# Altium integrated library Linear Technology Power Management LDO Linear Regulators.IntLib: 2339 symbols (part 93 of 131)
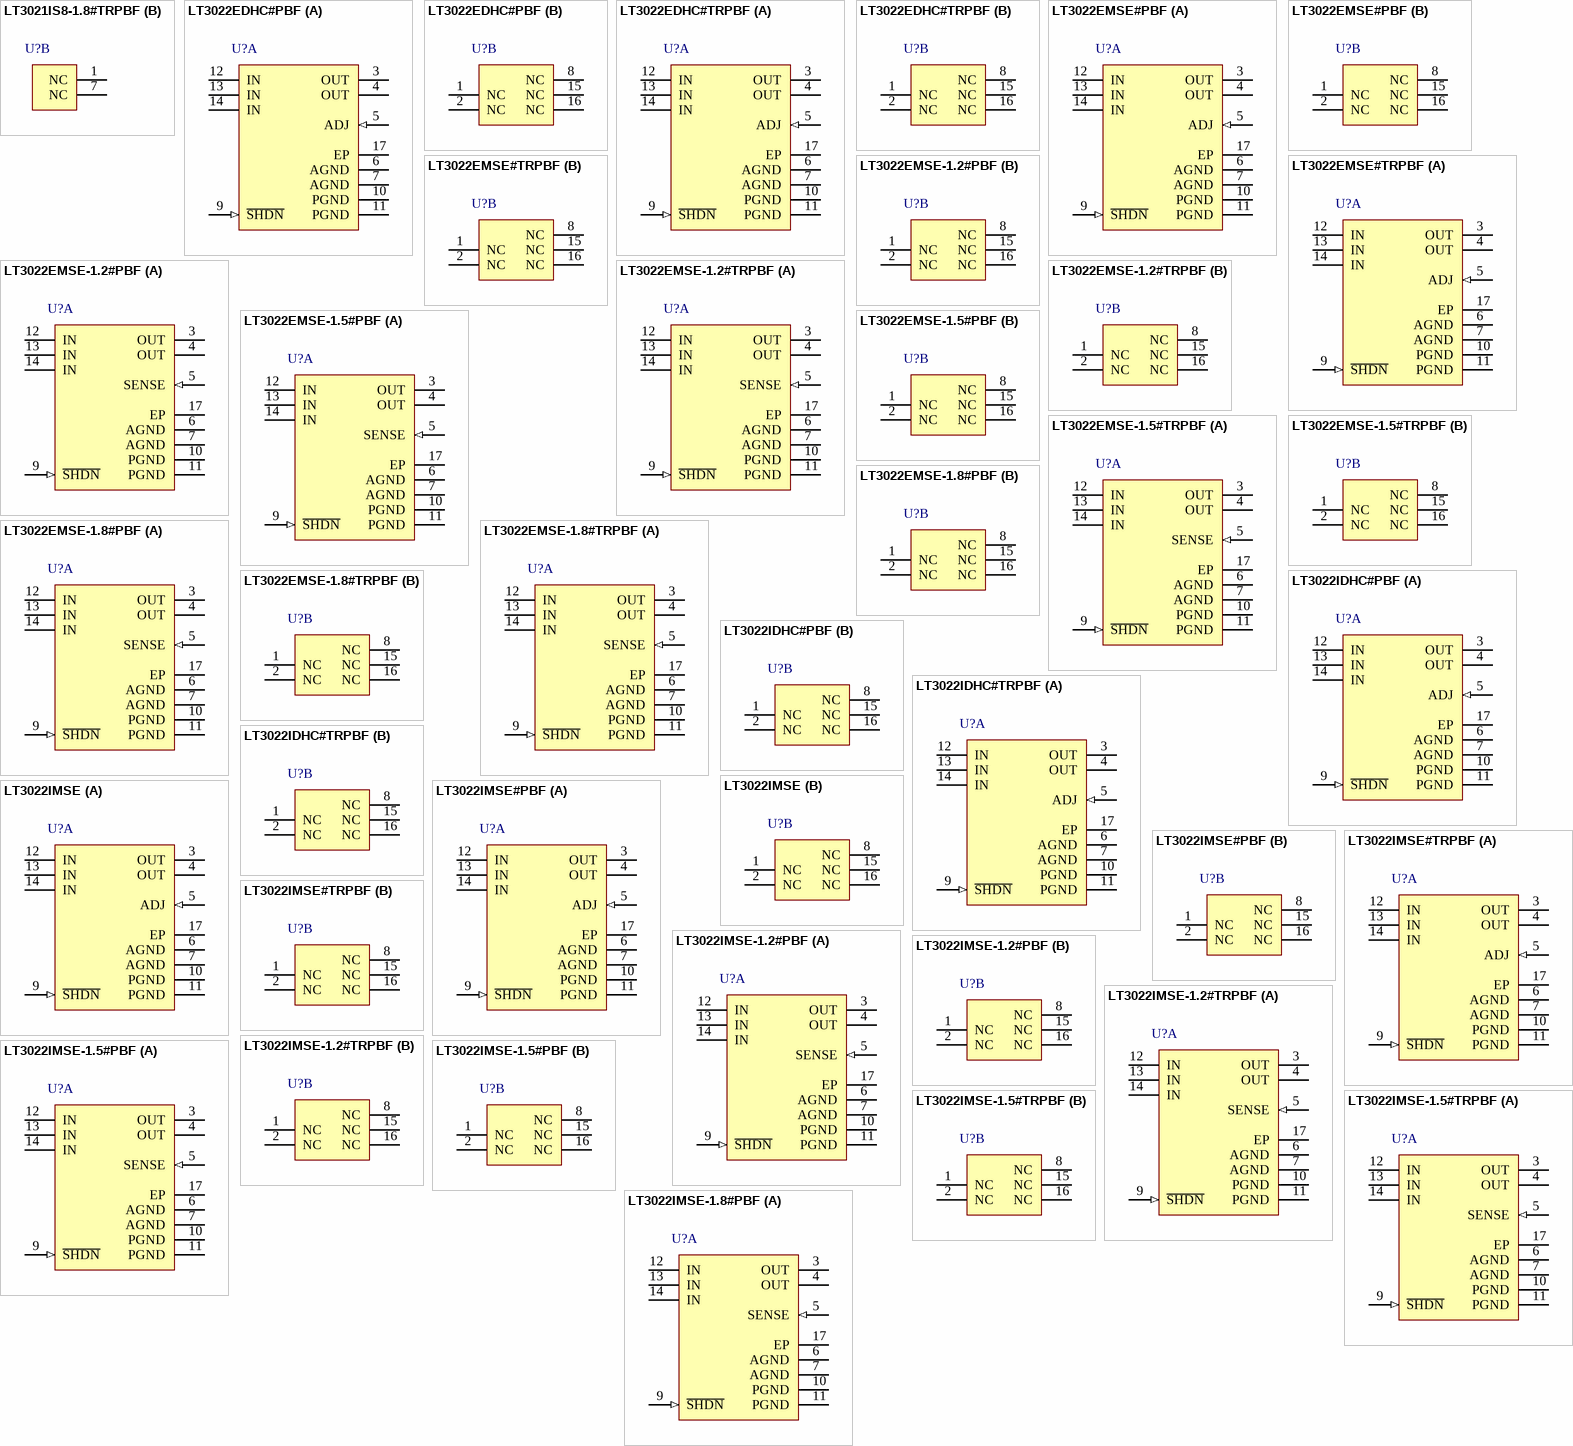
[diagram p161: symbols LT3021IS8-1.8#TRPBF to LT3022IMSE-1.8#PBF]

## LT3022EMSE#PBF
designator U?
1 A, Very Low Dropout Linear Regulator, 0.9 to 10 V Vin, Adjustable Vout, 16-pin SOP (MSE-16-EDP), -40 to 125 degC, Pb-Free; Manufacturer: Linear Technology; PartNumber: LT3022EMSE#PBF; Discrete Pass Element: no; Dropout Voltage(V): 0.145; Iout(mA): 1000; Isupply(mA): 0.4; Noise(uV): 165; Number of Outputs: 1; Output Voltage: Adj; PSRR(dB): 70; Shutdown Current(uA): 7.5; Vin Max(V): 10; Vin Min(V): 0.9; Vout Max(V): 9.5; Vout Min(V): 0.2; DatasheetVersion: Rev. B; PackageVersion: Rev. F, 05/2013; PackageReference: MSE-16; PackageDescription: 16-Pin Plastic MSOP, Exposed Die Pad, Body 4.039 x 3 mm, Pitch 0.5 mm; Supplier 1: Digi-Key; Supplier Part Number 1: LT3022EMSE#PBF-ND; Supplier 2: Farnell; Supplier Part Number 2: 1839069; Supplier 3: Newark; Supplier Part Number 3: 13T4226; RoHS: TRUE; Mounting Technology: Surface Mount; ComponentLink1Description: Manufacturer URL; ComponentLink1URL: http://www.linear.com/; ComponentLink2Description: Datasheet; ComponentLink2URL: http://cds.linear.com/docs/en/datasheet/3022fb.pdf; ComponentLink3Description: Package Specification; ComponentLink3URL: http://cds.linear.com/docs/en/packaging/05081667_F_MSE16.pdf
footprint LT-MSE-16-EDP_N (SOP, 16-Leads, Body 4.039x3mm, Pitch 0.5mm, Thermal Pad 2.95x1.76mm, IPC Medium Density)
footprint LT-MSE-16-EDP_L (SOP, 16-Leads, Body 4.039x3mm, Pitch 0.5mm, Thermal Pad 2.95x1.76mm, IPC High Density)
footprint LT-MSE-16-EDP_M (SOP, 16-Leads, Body 4.039x3mm, Pitch 0.5mm, Thermal Pad 2.95x1.76mm, IPC Low Density)
part A pins: 3 OUT (power) "These pins supply power to the load. Use a minimum output capacitor of 10uF to prevent oscillations. Large load transient applications require larger output capacitors to limit peak voltage transients. See the Applications (See Datasheet)", 4 OUT (power) "These pins supply power to the load. Use a minimum output capacitor of 10uF to prevent oscillations. Large load transient applications require larger output capacitors to limit peak voltage transients. See the Applications (See Datasheet)", 5 ADJ (in) "This pin is the error amplifier inverting terminal. Its 30nA typical input bias current flows out of the pin (see curve of ADJ Pin Bias Current vs Temperature in the Typical Performance Characteristics). The ADJ pin (See Datasheet)", 6 AGND (power) "Analog Ground. Tie these pins directly to PGND (Pins 10, 11) and the exposed backside GND (Pin 17). Connect the bottom of the external resistor divider, setting output voltage, directly to AGND for optimum regulation.", 7 AGND (power) "Analog Ground. Tie these pins directly to PGND (Pins 10, 11) and the exposed backside GND (Pin 17). Connect the bottom of the external resistor divider, setting output voltage, directly to AGND for optimum regulation.", 9 ~{SHDN} (in) "Pulling the S\H\D\N\ pin low puts the LT3022 into a low power state and turns the output off. Drive the S\H\D\N\ pin with either logic or an open-collector/drain device with a pull-up resistor. The resistor supplies the (See Datasheet)", 10 PGND (power) "Power Ground. The majority of ground pin current flows out of PGND. Tie these pins directly to AGND (Pins 6, 7) and the exposed backside GND (Pin 17).", 11 PGND (power) "Power Ground. The majority of ground pin current flows out of PGND. Tie these pins directly to AGND (Pins 6, 7) and the exposed backside GND (Pin 17).", 12 IN (power) "These pins supply power to the device. The LT3022 requires a bypass capacitor at IN if located more than six inches from the main input filter capacitor. Include a bypass capacitor in battery-powered circuits as a (See Datasheet)", 13 IN (power) "These pins supply power to the device. The LT3022 requires a bypass capacitor at IN if located more than six inches from the main input filter capacitor. Include a bypass capacitor in battery-powered circuits as a (See Datasheet)", 14 IN (power) "These pins supply power to the device. The LT3022 requires a bypass capacitor at IN if located more than six inches from the main input filter capacitor. Include a bypass capacitor in battery-powered circuits as a (See Datasheet)", 17 EP (power) "Exposed Pad. Tie this pin directly to AGND (Pins 6, 7), PGND (Pins 10, 11) and the PCB ground. This pin provides enhanced thermal performance with its connection to the PCB ground. See the Applications Information section (See Datasheet)"
part B pins: 1 NC "No Connect Pins. These pins have no connection to internal circuitry. These pins may be floated, tied to VIN or tied to GND for improved thermal performance.", 2 NC "No Connect Pins. These pins have no connection to internal circuitry. These pins may be floated, tied to VIN or tied to GND for improved thermal performance.", 8 NC "No Connect Pins. These pins have no connection to internal circuitry. These pins may be floated, tied to VIN or tied to GND for improved thermal performance.", 15 NC "No Connect Pins. These pins have no connection to internal circuitry. These pins may be floated, tied to VIN or tied to GND for improved thermal performance.", 16 NC "No Connect Pins. These pins have no connection to internal circuitry. These pins may be floated, tied to VIN or tied to GND for improved thermal performance."

## LT3022EMSE#TRPBF
designator U?
1 A, Very Low Dropout Linear Regulator, 0.9 to 10 V Vin, Adjustable Vout, 16-pin SOP (MSE-16-EDP), -40 to 125 degC, Pb-Free, Tape and Reel; Manufacturer: Linear Technology; PartNumber: LT3022EMSE#TRPBF; Discrete Pass Element: no; Dropout Voltage(V): 0.145; Iout(mA): 1000; Isupply(mA): 0.4; Noise(uV): 165; Number of Outputs: 1; Output Voltage: Adj; PSRR(dB): 70; Shutdown Current(uA): 7.5; Vin Max(V): 10; Vin Min(V): 0.9; Vout Max(V): 9.5; Vout Min(V): 0.2; DatasheetVersion: Rev. B; PackageVersion: Rev. F, 05/2013; PackageReference: MSE-16; PackageDescription: 16-Pin Plastic MSOP, Exposed Die Pad, Body 4.039 x 3 mm, Pitch 0.5 mm; Supplier 1: Digi-Key; Supplier Part Number 1: LT3022EMSE#TRPBF-ND; Supplier 2: Newark; Supplier Part Number 2: 13T4227; Packing: Tape and Reel; RoHS: TRUE; Mounting Technology: Surface Mount; ComponentLink1Description: Manufacturer URL; ComponentLink1URL: http://www.linear.com/; ComponentLink2Description: Datasheet; ComponentLink2URL: http://cds.linear.com/docs/en/datasheet/3022fb.pdf; ComponentLink3Description: Package Specification; ComponentLink3URL: http://cds.linear.com/docs/en/packaging/05081667_F_MSE16.pdf
footprint LT-MSE-16-EDP_N (SOP, 16-Leads, Body 4.039x3mm, Pitch 0.5mm, Thermal Pad 2.95x1.76mm, IPC Medium Density)
footprint LT-MSE-16-EDP_L (SOP, 16-Leads, Body 4.039x3mm, Pitch 0.5mm, Thermal Pad 2.95x1.76mm, IPC High Density)
footprint LT-MSE-16-EDP_M (SOP, 16-Leads, Body 4.039x3mm, Pitch 0.5mm, Thermal Pad 2.95x1.76mm, IPC Low Density)
part A pins: 3 OUT (power) "These pins supply power to the load. Use a minimum output capacitor of 10uF to prevent oscillations. Large load transient applications require larger output capacitors to limit peak voltage transients. See the Applications (See Datasheet)", 4 OUT (power) "These pins supply power to the load. Use a minimum output capacitor of 10uF to prevent oscillations. Large load transient applications require larger output capacitors to limit peak voltage transients. See the Applications (See Datasheet)", 5 ADJ (in) "This pin is the error amplifier inverting terminal. Its 30nA typical input bias current flows out of the pin (see curve of ADJ Pin Bias Current vs Temperature in the Typical Performance Characteristics). The ADJ pin (See Datasheet)", 6 AGND (power) "Analog Ground. Tie these pins directly to PGND (Pins 10, 11) and the exposed backside GND (Pin 17). Connect the bottom of the external resistor divider, setting output voltage, directly to AGND for optimum regulation.", 7 AGND (power) "Analog Ground. Tie these pins directly to PGND (Pins 10, 11) and the exposed backside GND (Pin 17). Connect the bottom of the external resistor divider, setting output voltage, directly to AGND for optimum regulation.", 9 ~{SHDN} (in) "Pulling the S\H\D\N\ pin low puts the LT3022 into a low power state and turns the output off. Drive the S\H\D\N\ pin with either logic or an open-collector/drain device with a pull-up resistor. The resistor supplies the (See Datasheet)", 10 PGND (power) "Power Ground. The majority of ground pin current flows out of PGND. Tie these pins directly to AGND (Pins 6, 7) and the exposed backside GND (Pin 17).", 11 PGND (power) "Power Ground. The majority of ground pin current flows out of PGND. Tie these pins directly to AGND (Pins 6, 7) and the exposed backside GND (Pin 17).", 12 IN (power) "These pins supply power to the device. The LT3022 requires a bypass capacitor at IN if located more than six inches from the main input filter capacitor. Include a bypass capacitor in battery-powered circuits as a (See Datasheet)", 13 IN (power) "These pins supply power to the device. The LT3022 requires a bypass capacitor at IN if located more than six inches from the main input filter capacitor. Include a bypass capacitor in battery-powered circuits as a (See Datasheet)", 14 IN (power) "These pins supply power to the device. The LT3022 requires a bypass capacitor at IN if located more than six inches from the main input filter capacitor. Include a bypass capacitor in battery-powered circuits as a (See Datasheet)", 17 EP (power) "Exposed Pad. Tie this pin directly to AGND (Pins 6, 7), PGND (Pins 10, 11) and the PCB ground. This pin provides enhanced thermal performance with its connection to the PCB ground. See the Applications Information section (See Datasheet)"
part B pins: 1 NC "No Connect Pins. These pins have no connection to internal circuitry. These pins may be floated, tied to VIN or tied to GND for improved thermal performance.", 2 NC "No Connect Pins. These pins have no connection to internal circuitry. These pins may be floated, tied to VIN or tied to GND for improved thermal performance.", 8 NC "No Connect Pins. These pins have no connection to internal circuitry. These pins may be floated, tied to VIN or tied to GND for improved thermal performance.", 15 NC "No Connect Pins. These pins have no connection to internal circuitry. These pins may be floated, tied to VIN or tied to GND for improved thermal performance.", 16 NC "No Connect Pins. These pins have no connection to internal circuitry. These pins may be floated, tied to VIN or tied to GND for improved thermal performance."

## LT3022EMSE-1.2#PBF
designator U?
1 A, Very Low Dropout Linear Regulator, 0.9 to 10 V Vin, 1.2 V Vout, 16-pin SOP (MSE-16-EDP), -40 to 125 degC, Pb-Free; Manufacturer: Linear Technology; PartNumber: LT3022EMSE-1.2#PBF; Discrete Pass Element: no; Dropout Voltage(V): 0.145; Iout(mA): 1000; Isupply(mA): 0.4; Noise(uV): 165; Number of Outputs: 1; Output Voltage: 1.2 V; PSRR(dB): 66; Shutdown Current(uA): 7.5; Vin Max(V): 10; Vin Min(V): 0.9; DatasheetVersion: Rev. B; PackageVersion: Rev. F, 05/2013; PackageReference: MSE-16; PackageDescription: 16-Pin Plastic MSOP, Exposed Die Pad, Body 4.039 x 3 mm, Pitch 0.5 mm; Supplier 1: Digi-Key; Supplier Part Number 1: LT3022EMSE-1.2#PBF-ND; Supplier 2: Farnell; Supplier Part Number 2: 1847505; Supplier 3: Newark; Supplier Part Number 3: 13T4220; RoHS: TRUE; Mounting Technology: Surface Mount; ComponentLink1Description: Manufacturer URL; ComponentLink1URL: http://www.linear.com/; ComponentLink2Description: Datasheet; ComponentLink2URL: http://cds.linear.com/docs/en/datasheet/3022fb.pdf; ComponentLink3Description: Package Specification; ComponentLink3URL: http://cds.linear.com/docs/en/packaging/05081667_F_MSE16.pdf
footprint LT-MSE-16-EDP_N (SOP, 16-Leads, Body 4.039x3mm, Pitch 0.5mm, Thermal Pad 2.95x1.76mm, IPC Medium Density)
footprint LT-MSE-16-EDP_L (SOP, 16-Leads, Body 4.039x3mm, Pitch 0.5mm, Thermal Pad 2.95x1.76mm, IPC High Density)
footprint LT-MSE-16-EDP_M (SOP, 16-Leads, Body 4.039x3mm, Pitch 0.5mm, Thermal Pad 2.95x1.76mm, IPC Low Density)
part A pins: 3 OUT (power) "These pins supply power to the load. Use a minimum output capacitor of 10uF to prevent oscillations. Large load transient applications require larger output capacitors to limit peak voltage transients. See the Applications (See Datasheet)", 4 OUT (power) "These pins supply power to the load. Use a minimum output capacitor of 10uF to prevent oscillations. Large load transient applications require larger output capacitors to limit peak voltage transients. See the Applications (See Datasheet)", 5 SENSE (in) "This pin is the sense point for the internal resistor divider. It should be tied directly to the OUT pins for best results.", 6 AGND (power) "Analog Ground. Tie these pins directly to PGND (Pins 10, 11) and the exposed backside GND (Pin 17). Connect the bottom of the external resistor divider, setting output voltage, directly to AGND for optimum regulation.", 7 AGND (power) "Analog Ground. Tie these pins directly to PGND (Pins 10, 11) and the exposed backside GND (Pin 17). Connect the bottom of the external resistor divider, setting output voltage, directly to AGND for optimum regulation.", 9 ~{SHDN} (in) "Pulling the S\H\D\N\ pin low puts the LT3022 into a low power state and turns the output off. Drive the S\H\D\N\ pin with either logic or an open-collector/drain device with a pull-up resistor. The resistor supplies the (See Datasheet)", 10 PGND (power) "Power Ground. The majority of ground pin current flows out of PGND. Tie these pins directly to AGND (Pins 6, 7) and the exposed backside GND (Pin 17).", 11 PGND (power) "Power Ground. The majority of ground pin current flows out of PGND. Tie these pins directly to AGND (Pins 6, 7) and the exposed backside GND (Pin 17).", 12 IN (power) "These pins supply power to the device. The LT3022 requires a bypass capacitor at IN if located more than six inches from the main input filter capacitor. Include a bypass capacitor in battery-powered circuits as a (See Datasheet)", 13 IN (power) "These pins supply power to the device. The LT3022 requires a bypass capacitor at IN if located more than six inches from the main input filter capacitor. Include a bypass capacitor in battery-powered circuits as a (See Datasheet)", 14 IN (power) "These pins supply power to the device. The LT3022 requires a bypass capacitor at IN if located more than six inches from the main input filter capacitor. Include a bypass capacitor in battery-powered circuits as a (See Datasheet)", 17 EP (power) "Exposed Pad. Tie this pin directly to AGND (Pins 6, 7), PGND (Pins 10, 11) and the PCB ground. This pin provides enhanced thermal performance with its connection to the PCB ground. See the Applications Information section (See Datasheet)"
part B pins: 1 NC "No Connect Pins. These pins have no connection to internal circuitry. These pins may be floated, tied to VIN or tied to GND for improved thermal performance.", 2 NC "No Connect Pins. These pins have no connection to internal circuitry. These pins may be floated, tied to VIN or tied to GND for improved thermal performance.", 8 NC "No Connect Pins. These pins have no connection to internal circuitry. These pins may be floated, tied to VIN or tied to GND for improved thermal performance.", 15 NC "No Connect Pins. These pins have no connection to internal circuitry. These pins may be floated, tied to VIN or tied to GND for improved thermal performance.", 16 NC "No Connect Pins. These pins have no connection to internal circuitry. These pins may be floated, tied to VIN or tied to GND for improved thermal performance."

## LT3022EMSE-1.2#TRPBF
designator U?
1 A, Very Low Dropout Linear Regulator, 0.9 to 10 V Vin, 1.2 V Vout, 16-pin SOP (MSE-16-EDP), -40 to 125 degC, Pb-Free, Tape and Reel; Manufacturer: Linear Technology; PartNumber: LT3022EMSE-1.2#TRPBF; Discrete Pass Element: no; Dropout Voltage(V): 0.145; Iout(mA): 1000; Isupply(mA): 0.4; Noise(uV): 165; Number of Outputs: 1; Output Voltage: 1.2 V; PSRR(dB): 66; Shutdown Current(uA): 7.5; Vin Max(V): 10; Vin Min(V): 0.9; DatasheetVersion: Rev. B; PackageVersion: Rev. F, 05/2013; PackageReference: MSE-16; PackageDescription: 16-Pin Plastic MSOP, Exposed Die Pad, Body 4.039 x 3 mm, Pitch 0.5 mm; Supplier 1: Digi-Key; Supplier Part Number 1: LT3022EMSE-1.2#TRPBF-ND; Supplier 2: Newark; Supplier Part Number 2: 13T4221; Packing: Tape and Reel; RoHS: TRUE; Mounting Technology: Surface Mount; ComponentLink1Description: Manufacturer URL; ComponentLink1URL: http://www.linear.com/; ComponentLink2Description: Datasheet; ComponentLink2URL: http://cds.linear.com/docs/en/datasheet/3022fb.pdf; ComponentLink3Description: Package Specification; ComponentLink3URL: http://cds.linear.com/docs/en/packaging/05081667_F_MSE16.pdf
footprint LT-MSE-16-EDP_N (SOP, 16-Leads, Body 4.039x3mm, Pitch 0.5mm, Thermal Pad 2.95x1.76mm, IPC Medium Density)
footprint LT-MSE-16-EDP_L (SOP, 16-Leads, Body 4.039x3mm, Pitch 0.5mm, Thermal Pad 2.95x1.76mm, IPC High Density)
footprint LT-MSE-16-EDP_M (SOP, 16-Leads, Body 4.039x3mm, Pitch 0.5mm, Thermal Pad 2.95x1.76mm, IPC Low Density)
part A pins: 3 OUT (power) "These pins supply power to the load. Use a minimum output capacitor of 10uF to prevent oscillations. Large load transient applications require larger output capacitors to limit peak voltage transients. See the Applications (See Datasheet)", 4 OUT (power) "These pins supply power to the load. Use a minimum output capacitor of 10uF to prevent oscillations. Large load transient applications require larger output capacitors to limit peak voltage transients. See the Applications (See Datasheet)", 5 SENSE (in) "This pin is the sense point for the internal resistor divider. It should be tied directly to the OUT pins for best results.", 6 AGND (power) "Analog Ground. Tie these pins directly to PGND (Pins 10, 11) and the exposed backside GND (Pin 17). Connect the bottom of the external resistor divider, setting output voltage, directly to AGND for optimum regulation.", 7 AGND (power) "Analog Ground. Tie these pins directly to PGND (Pins 10, 11) and the exposed backside GND (Pin 17). Connect the bottom of the external resistor divider, setting output voltage, directly to AGND for optimum regulation.", 9 ~{SHDN} (in) "Pulling the S\H\D\N\ pin low puts the LT3022 into a low power state and turns the output off. Drive the S\H\D\N\ pin with either logic or an open-collector/drain device with a pull-up resistor. The resistor supplies the (See Datasheet)", 10 PGND (power) "Power Ground. The majority of ground pin current flows out of PGND. Tie these pins directly to AGND (Pins 6, 7) and the exposed backside GND (Pin 17).", 11 PGND (power) "Power Ground. The majority of ground pin current flows out of PGND. Tie these pins directly to AGND (Pins 6, 7) and the exposed backside GND (Pin 17).", 12 IN (power) "These pins supply power to the device. The LT3022 requires a bypass capacitor at IN if located more than six inches from the main input filter capacitor. Include a bypass capacitor in battery-powered circuits as a (See Datasheet)", 13 IN (power) "These pins supply power to the device. The LT3022 requires a bypass capacitor at IN if located more than six inches from the main input filter capacitor. Include a bypass capacitor in battery-powered circuits as a (See Datasheet)", 14 IN (power) "These pins supply power to the device. The LT3022 requires a bypass capacitor at IN if located more than six inches from the main input filter capacitor. Include a bypass capacitor in battery-powered circuits as a (See Datasheet)", 17 EP (power) "Exposed Pad. Tie this pin directly to AGND (Pins 6, 7), PGND (Pins 10, 11) and the PCB ground. This pin provides enhanced thermal performance with its connection to the PCB ground. See the Applications Information section (See Datasheet)"
part B pins: 1 NC "No Connect Pins. These pins have no connection to internal circuitry. These pins may be floated, tied to VIN or tied to GND for improved thermal performance.", 2 NC "No Connect Pins. These pins have no connection to internal circuitry. These pins may be floated, tied to VIN or tied to GND for improved thermal performance.", 8 NC "No Connect Pins. These pins have no connection to internal circuitry. These pins may be floated, tied to VIN or tied to GND for improved thermal performance.", 15 NC "No Connect Pins. These pins have no connection to internal circuitry. These pins may be floated, tied to VIN or tied to GND for improved thermal performance.", 16 NC "No Connect Pins. These pins have no connection to internal circuitry. These pins may be floated, tied to VIN or tied to GND for improved thermal performance."

## LT3022EMSE-1.5#PBF
designator U?
1 A, Very Low Dropout Linear Regulator, 0.9 to 10 V Vin, 1.5 V Vout, 16-pin SOP (MSE-16-EDP), -40 to 125 degC, Pb-Free; Manufacturer: Linear Technology; PartNumber: LT3022EMSE-1.5#PBF; Discrete Pass Element: no; Dropout Voltage(V): 0.145; Iout(mA): 1000; Isupply(mA): 0.4; Noise(uV): 165; Number of Outputs: 1; Output Voltage: 1.5 V; PSRR(dB): 66; Shutdown Current(uA): 7.5; Vin Max(V): 10; Vin Min(V): 0.9; DatasheetVersion: Rev. B; PackageVersion: Rev. F, 05/2013; PackageReference: MSE-16; PackageDescription: 16-Pin Plastic MSOP, Exposed Die Pad, Body 4.039 x 3 mm, Pitch 0.5 mm; Supplier 1: Digi-Key; Supplier Part Number 1: LT3022EMSE-1.5#PBF-ND; Supplier 2: Farnell; Supplier Part Number 2: 1847512; Supplier 3: Newark; Supplier Part Number 3: 13T4222; RoHS: TRUE; Mounting Technology: Surface Mount; ComponentLink1Description: Manufacturer URL; ComponentLink1URL: http://www.linear.com/; ComponentLink2Description: Datasheet; ComponentLink2URL: http://cds.linear.com/docs/en/datasheet/3022fb.pdf; ComponentLink3Description: Package Specification; ComponentLink3URL: http://cds.linear.com/docs/en/packaging/05081667_F_MSE16.pdf
footprint LT-MSE-16-EDP_N (SOP, 16-Leads, Body 4.039x3mm, Pitch 0.5mm, Thermal Pad 2.95x1.76mm, IPC Medium Density)
footprint LT-MSE-16-EDP_L (SOP, 16-Leads, Body 4.039x3mm, Pitch 0.5mm, Thermal Pad 2.95x1.76mm, IPC High Density)
footprint LT-MSE-16-EDP_M (SOP, 16-Leads, Body 4.039x3mm, Pitch 0.5mm, Thermal Pad 2.95x1.76mm, IPC Low Density)
part A pins: 3 OUT (power) "These pins supply power to the load. Use a minimum output capacitor of 10uF to prevent oscillations. Large load transient applications require larger output capacitors to limit peak voltage transients. See the Applications (See Datasheet)", 4 OUT (power) "These pins supply power to the load. Use a minimum output capacitor of 10uF to prevent oscillations. Large load transient applications require larger output capacitors to limit peak voltage transients. See the Applications (See Datasheet)", 5 SENSE (in) "This pin is the sense point for the internal resistor divider. It should be tied directly to the OUT pins for best results.", 6 AGND (power) "Analog Ground. Tie these pins directly to PGND (Pins 10, 11) and the exposed backside GND (Pin 17). Connect the bottom of the external resistor divider, setting output voltage, directly to AGND for optimum regulation.", 7 AGND (power) "Analog Ground. Tie these pins directly to PGND (Pins 10, 11) and the exposed backside GND (Pin 17). Connect the bottom of the external resistor divider, setting output voltage, directly to AGND for optimum regulation.", 9 ~{SHDN} (in) "Pulling the S\H\D\N\ pin low puts the LT3022 into a low power state and turns the output off. Drive the S\H\D\N\ pin with either logic or an open-collector/drain device with a pull-up resistor. The resistor supplies the (See Datasheet)", 10 PGND (power) "Power Ground. The majority of ground pin current flows out of PGND. Tie these pins directly to AGND (Pins 6, 7) and the exposed backside GND (Pin 17).", 11 PGND (power) "Power Ground. The majority of ground pin current flows out of PGND. Tie these pins directly to AGND (Pins 6, 7) and the exposed backside GND (Pin 17).", 12 IN (power) "These pins supply power to the device. The LT3022 requires a bypass capacitor at IN if located more than six inches from the main input filter capacitor. Include a bypass capacitor in battery-powered circuits as a (See Datasheet)", 13 IN (power) "These pins supply power to the device. The LT3022 requires a bypass capacitor at IN if located more than six inches from the main input filter capacitor. Include a bypass capacitor in battery-powered circuits as a (See Datasheet)", 14 IN (power) "These pins supply power to the device. The LT3022 requires a bypass capacitor at IN if located more than six inches from the main input filter capacitor. Include a bypass capacitor in battery-powered circuits as a (See Datasheet)", 17 EP (power) "Exposed Pad. Tie this pin directly to AGND (Pins 6, 7), PGND (Pins 10, 11) and the PCB ground. This pin provides enhanced thermal performance with its connection to the PCB ground. See the Applications Information section (See Datasheet)"
part B pins: 1 NC "No Connect Pins. These pins have no connection to internal circuitry. These pins may be floated, tied to VIN or tied to GND for improved thermal performance.", 2 NC "No Connect Pins. These pins have no connection to internal circuitry. These pins may be floated, tied to VIN or tied to GND for improved thermal performance.", 8 NC "No Connect Pins. These pins have no connection to internal circuitry. These pins may be floated, tied to VIN or tied to GND for improved thermal performance.", 15 NC "No Connect Pins. These pins have no connection to internal circuitry. These pins may be floated, tied to VIN or tied to GND for improved thermal performance.", 16 NC "No Connect Pins. These pins have no connection to internal circuitry. These pins may be floated, tied to VIN or tied to GND for improved thermal performance."

## LT3022EMSE-1.5#TRPBF
designator U?
1 A, Very Low Dropout Linear Regulator, 0.9 to 10 V Vin, 1.5 V Vout, 16-pin SOP (MSE-16-EDP), -40 to 125 degC, Pb-Free, Tape and Reel; Manufacturer: Linear Technology; PartNumber: LT3022EMSE-1.5#TRPBF; Discrete Pass Element: no; Dropout Voltage(V): 0.145; Iout(mA): 1000; Isupply(mA): 0.4; Noise(uV): 165; Number of Outputs: 1; Output Voltage: 1.5 V; PSRR(dB): 66; Shutdown Current(uA): 7.5; Vin Max(V): 10; Vin Min(V): 0.9; DatasheetVersion: Rev. B; PackageVersion: Rev. F, 05/2013; PackageReference: MSE-16; PackageDescription: 16-Pin Plastic MSOP, Exposed Die Pad, Body 4.039 x 3 mm, Pitch 0.5 mm; Supplier 1: Digi-Key; Supplier Part Number 1: LT3022EMSE-1.5#TRPBF-ND; Packing: Tape and Reel; RoHS: TRUE; Mounting Technology: Surface Mount; ComponentLink1Description: Manufacturer URL; ComponentLink1URL: http://www.linear.com/; ComponentLink2Description: Datasheet; ComponentLink2URL: http://cds.linear.com/docs/en/datasheet/3022fb.pdf; ComponentLink3Description: Package Specification; ComponentLink3URL: http://cds.linear.com/docs/en/packaging/05081667_F_MSE16.pdf
footprint LT-MSE-16-EDP_N (SOP, 16-Leads, Body 4.039x3mm, Pitch 0.5mm, Thermal Pad 2.95x1.76mm, IPC Medium Density)
footprint LT-MSE-16-EDP_L (SOP, 16-Leads, Body 4.039x3mm, Pitch 0.5mm, Thermal Pad 2.95x1.76mm, IPC High Density)
footprint LT-MSE-16-EDP_M (SOP, 16-Leads, Body 4.039x3mm, Pitch 0.5mm, Thermal Pad 2.95x1.76mm, IPC Low Density)
part A pins: 3 OUT (power) "These pins supply power to the load. Use a minimum output capacitor of 10uF to prevent oscillations. Large load transient applications require larger output capacitors to limit peak voltage transients. See the Applications (See Datasheet)", 4 OUT (power) "These pins supply power to the load. Use a minimum output capacitor of 10uF to prevent oscillations. Large load transient applications require larger output capacitors to limit peak voltage transients. See the Applications (See Datasheet)", 5 SENSE (in) "This pin is the sense point for the internal resistor divider. It should be tied directly to the OUT pins for best results.", 6 AGND (power) "Analog Ground. Tie these pins directly to PGND (Pins 10, 11) and the exposed backside GND (Pin 17). Connect the bottom of the external resistor divider, setting output voltage, directly to AGND for optimum regulation.", 7 AGND (power) "Analog Ground. Tie these pins directly to PGND (Pins 10, 11) and the exposed backside GND (Pin 17). Connect the bottom of the external resistor divider, setting output voltage, directly to AGND for optimum regulation.", 9 ~{SHDN} (in) "Pulling the S\H\D\N\ pin low puts the LT3022 into a low power state and turns the output off. Drive the S\H\D\N\ pin with either logic or an open-collector/drain device with a pull-up resistor. The resistor supplies the (See Datasheet)", 10 PGND (power) "Power Ground. The majority of ground pin current flows out of PGND. Tie these pins directly to AGND (Pins 6, 7) and the exposed backside GND (Pin 17).", 11 PGND (power) "Power Ground. The majority of ground pin current flows out of PGND. Tie these pins directly to AGND (Pins 6, 7) and the exposed backside GND (Pin 17).", 12 IN (power) "These pins supply power to the device. The LT3022 requires a bypass capacitor at IN if located more than six inches from the main input filter capacitor. Include a bypass capacitor in battery-powered circuits as a (See Datasheet)", 13 IN (power) "These pins supply power to the device. The LT3022 requires a bypass capacitor at IN if located more than six inches from the main input filter capacitor. Include a bypass capacitor in battery-powered circuits as a (See Datasheet)", 14 IN (power) "These pins supply power to the device. The LT3022 requires a bypass capacitor at IN if located more than six inches from the main input filter capacitor. Include a bypass capacitor in battery-powered circuits as a (See Datasheet)", 17 EP (power) "Exposed Pad. Tie this pin directly to AGND (Pins 6, 7), PGND (Pins 10, 11) and the PCB ground. This pin provides enhanced thermal performance with its connection to the PCB ground. See the Applications Information section (See Datasheet)"
part B pins: 1 NC "No Connect Pins. These pins have no connection to internal circuitry. These pins may be floated, tied to VIN or tied to GND for improved thermal performance.", 2 NC "No Connect Pins. These pins have no connection to internal circuitry. These pins may be floated, tied to VIN or tied to GND for improved thermal performance.", 8 NC "No Connect Pins. These pins have no connection to internal circuitry. These pins may be floated, tied to VIN or tied to GND for improved thermal performance.", 15 NC "No Connect Pins. These pins have no connection to internal circuitry. These pins may be floated, tied to VIN or tied to GND for improved thermal performance.", 16 NC "No Connect Pins. These pins have no connection to internal circuitry. These pins may be floated, tied to VIN or tied to GND for improved thermal performance."

## LT3022EMSE-1.8#PBF
designator U?
1 A, Very Low Dropout Linear Regulator, 0.9 to 10 V Vin, 1.8 V Vout, 16-pin SOP (MSE-16-EDP), -40 to 125 degC, Pb-Free; Manufacturer: Linear Technology; PartNumber: LT3022EMSE-1.8#PBF; Discrete Pass Element: no; Dropout Voltage(V): 0.145; Iout(mA): 1000; Isupply(mA): 0.4; Noise(uV): 165; Number of Outputs: 1; Output Voltage: 1.8 V; PSRR(dB): 66; Shutdown Current(uA): 7.5; Vin Max(V): 10; Vin Min(V): 0.9; DatasheetVersion: Rev. B; PackageVersion: Rev. F, 05/2013; PackageReference: MSE-16; PackageDescription: 16-Pin Plastic MSOP, Exposed Die Pad, Body 4.039 x 3 mm, Pitch 0.5 mm; Supplier 1: Digi-Key; Supplier Part Number 1: LT3022EMSE-1.8#PBF-ND; Supplier 2: Farnell; Supplier Part Number 2: 1847520; Supplier 3: Newark; Supplier Part Number 3: 13T4224; RoHS: TRUE; Mounting Technology: Surface Mount; ComponentLink1Description: Manufacturer URL; ComponentLink1URL: http://www.linear.com/; ComponentLink2Description: Datasheet; ComponentLink2URL: http://cds.linear.com/docs/en/datasheet/3022fb.pdf; ComponentLink3Description: Package Specification; ComponentLink3URL: http://cds.linear.com/docs/en/packaging/05081667_F_MSE16.pdf
footprint LT-MSE-16-EDP_N (SOP, 16-Leads, Body 4.039x3mm, Pitch 0.5mm, Thermal Pad 2.95x1.76mm, IPC Medium Density)
footprint LT-MSE-16-EDP_L (SOP, 16-Leads, Body 4.039x3mm, Pitch 0.5mm, Thermal Pad 2.95x1.76mm, IPC High Density)
footprint LT-MSE-16-EDP_M (SOP, 16-Leads, Body 4.039x3mm, Pitch 0.5mm, Thermal Pad 2.95x1.76mm, IPC Low Density)
part A pins: 3 OUT (power) "These pins supply power to the load. Use a minimum output capacitor of 10uF to prevent oscillations. Large load transient applications require larger output capacitors to limit peak voltage transients. See the Applications (See Datasheet)", 4 OUT (power) "These pins supply power to the load. Use a minimum output capacitor of 10uF to prevent oscillations. Large load transient applications require larger output capacitors to limit peak voltage transients. See the Applications (See Datasheet)", 5 SENSE (in) "This pin is the sense point for the internal resistor divider. It should be tied directly to the OUT pins for best results.", 6 AGND (power) "Analog Ground. Tie these pins directly to PGND (Pins 10, 11) and the exposed backside GND (Pin 17). Connect the bottom of the external resistor divider, setting output voltage, directly to AGND for optimum regulation.", 7 AGND (power) "Analog Ground. Tie these pins directly to PGND (Pins 10, 11) and the exposed backside GND (Pin 17). Connect the bottom of the external resistor divider, setting output voltage, directly to AGND for optimum regulation.", 9 ~{SHDN} (in) "Pulling the S\H\D\N\ pin low puts the LT3022 into a low power state and turns the output off. Drive the S\H\D\N\ pin with either logic or an open-collector/drain device with a pull-up resistor. The resistor supplies the (See Datasheet)", 10 PGND (power) "Power Ground. The majority of ground pin current flows out of PGND. Tie these pins directly to AGND (Pins 6, 7) and the exposed backside GND (Pin 17).", 11 PGND (power) "Power Ground. The majority of ground pin current flows out of PGND. Tie these pins directly to AGND (Pins 6, 7) and the exposed backside GND (Pin 17).", 12 IN (power) "These pins supply power to the device. The LT3022 requires a bypass capacitor at IN if located more than six inches from the main input filter capacitor. Include a bypass capacitor in battery-powered circuits as a (See Datasheet)", 13 IN (power) "These pins supply power to the device. The LT3022 requires a bypass capacitor at IN if located more than six inches from the main input filter capacitor. Include a bypass capacitor in battery-powered circuits as a (See Datasheet)", 14 IN (power) "These pins supply power to the device. The LT3022 requires a bypass capacitor at IN if located more than six inches from the main input filter capacitor. Include a bypass capacitor in battery-powered circuits as a (See Datasheet)", 17 EP (power) "Exposed Pad. Tie this pin directly to AGND (Pins 6, 7), PGND (Pins 10, 11) and the PCB ground. This pin provides enhanced thermal performance with its connection to the PCB ground. See the Applications Information section (See Datasheet)"
part B pins: 1 NC "No Connect Pins. These pins have no connection to internal circuitry. These pins may be floated, tied to VIN or tied to GND for improved thermal performance.", 2 NC "No Connect Pins. These pins have no connection to internal circuitry. These pins may be floated, tied to VIN or tied to GND for improved thermal performance.", 8 NC "No Connect Pins. These pins have no connection to internal circuitry. These pins may be floated, tied to VIN or tied to GND for improved thermal performance.", 15 NC "No Connect Pins. These pins have no connection to internal circuitry. These pins may be floated, tied to VIN or tied to GND for improved thermal performance.", 16 NC "No Connect Pins. These pins have no connection to internal circuitry. These pins may be floated, tied to VIN or tied to GND for improved thermal performance."

## LT3022EMSE-1.8#TRPBF
designator U?
1 A, Very Low Dropout Linear Regulator, 0.9 to 10 V Vin, 1.8 V Vout, 16-pin SOP (MSE-16-EDP), -40 to 125 degC, Pb-Free, Tape and Reel; Manufacturer: Linear Technology; PartNumber: LT3022EMSE-1.8#TRPBF; Discrete Pass Element: no; Dropout Voltage(V): 0.145; Iout(mA): 1000; Isupply(mA): 0.4; Noise(uV): 165; Number of Outputs: 1; Output Voltage: 1.8 V; PSRR(dB): 66; Shutdown Current(uA): 7.5; Vin Max(V): 10; Vin Min(V): 0.9; DatasheetVersion: Rev. B; PackageVersion: Rev. F, 05/2013; PackageReference: MSE-16; PackageDescription: 16-Pin Plastic MSOP, Exposed Die Pad, Body 4.039 x 3 mm, Pitch 0.5 mm; Supplier 1: Digi-Key; Supplier Part Number 1: LT3022EMSE-1.8#TRPBF-ND; Packing: Tape and Reel; RoHS: TRUE; Mounting Technology: Surface Mount; ComponentLink1Description: Manufacturer URL; ComponentLink1URL: http://www.linear.com/; ComponentLink2Description: Datasheet; ComponentLink2URL: http://cds.linear.com/docs/en/datasheet/3022fb.pdf; ComponentLink3Description: Package Specification; ComponentLink3URL: http://cds.linear.com/docs/en/packaging/05081667_F_MSE16.pdf
footprint LT-MSE-16-EDP_N (SOP, 16-Leads, Body 4.039x3mm, Pitch 0.5mm, Thermal Pad 2.95x1.76mm, IPC Medium Density)
footprint LT-MSE-16-EDP_L (SOP, 16-Leads, Body 4.039x3mm, Pitch 0.5mm, Thermal Pad 2.95x1.76mm, IPC High Density)
footprint LT-MSE-16-EDP_M (SOP, 16-Leads, Body 4.039x3mm, Pitch 0.5mm, Thermal Pad 2.95x1.76mm, IPC Low Density)
part A pins: 3 OUT (power) "These pins supply power to the load. Use a minimum output capacitor of 10uF to prevent oscillations. Large load transient applications require larger output capacitors to limit peak voltage transients. See the Applications (See Datasheet)", 4 OUT (power) "These pins supply power to the load. Use a minimum output capacitor of 10uF to prevent oscillations. Large load transient applications require larger output capacitors to limit peak voltage transients. See the Applications (See Datasheet)", 5 SENSE (in) "This pin is the sense point for the internal resistor divider. It should be tied directly to the OUT pins for best results.", 6 AGND (power) "Analog Ground. Tie these pins directly to PGND (Pins 10, 11) and the exposed backside GND (Pin 17). Connect the bottom of the external resistor divider, setting output voltage, directly to AGND for optimum regulation.", 7 AGND (power) "Analog Ground. Tie these pins directly to PGND (Pins 10, 11) and the exposed backside GND (Pin 17). Connect the bottom of the external resistor divider, setting output voltage, directly to AGND for optimum regulation.", 9 ~{SHDN} (in) "Pulling the S\H\D\N\ pin low puts the LT3022 into a low power state and turns the output off. Drive the S\H\D\N\ pin with either logic or an open-collector/drain device with a pull-up resistor. The resistor supplies the (See Datasheet)", 10 PGND (power) "Power Ground. The majority of ground pin current flows out of PGND. Tie these pins directly to AGND (Pins 6, 7) and the exposed backside GND (Pin 17).", 11 PGND (power) "Power Ground. The majority of ground pin current flows out of PGND. Tie these pins directly to AGND (Pins 6, 7) and the exposed backside GND (Pin 17).", 12 IN (power) "These pins supply power to the device. The LT3022 requires a bypass capacitor at IN if located more than six inches from the main input filter capacitor. Include a bypass capacitor in battery-powered circuits as a (See Datasheet)", 13 IN (power) "These pins supply power to the device. The LT3022 requires a bypass capacitor at IN if located more than six inches from the main input filter capacitor. Include a bypass capacitor in battery-powered circuits as a (See Datasheet)", 14 IN (power) "These pins supply power to the device. The LT3022 requires a bypass capacitor at IN if located more than six inches from the main input filter capacitor. Include a bypass capacitor in battery-powered circuits as a (See Datasheet)", 17 EP (power) "Exposed Pad. Tie this pin directly to AGND (Pins 6, 7), PGND (Pins 10, 11) and the PCB ground. This pin provides enhanced thermal performance with its connection to the PCB ground. See the Applications Information section (See Datasheet)"
part B pins: 1 NC "No Connect Pins. These pins have no connection to internal circuitry. These pins may be floated, tied to VIN or tied to GND for improved thermal performance.", 2 NC "No Connect Pins. These pins have no connection to internal circuitry. These pins may be floated, tied to VIN or tied to GND for improved thermal performance.", 8 NC "No Connect Pins. These pins have no connection to internal circuitry. These pins may be floated, tied to VIN or tied to GND for improved thermal performance.", 15 NC "No Connect Pins. These pins have no connection to internal circuitry. These pins may be floated, tied to VIN or tied to GND for improved thermal performance.", 16 NC "No Connect Pins. These pins have no connection to internal circuitry. These pins may be floated, tied to VIN or tied to GND for improved thermal performance."

## LT3022IDHC#PBF
designator U?
1 A, Very Low Dropout Linear Regulator, 0.9 to 10 V Vin, Adjustable Vout, 16-pin SON (DHC-16), -40 to 125 degC, Pb-Free; Manufacturer: Linear Technology; PartNumber: LT3022IDHC#PBF; Discrete Pass Element: no; Dropout Voltage(V): 0.145; Iout(mA): 1000; Isupply(mA): 0.4; Noise(uV): 165; Number of Outputs: 1; Output Voltage: Adj; PSRR(dB): 70; Shutdown Current(uA): 7.5; Vin Max(V): 10; Vin Min(V): 0.9; Vout Max(V): 9.5; Vout Min(V): 0.2; DatasheetVersion: Rev. B; PackageVersion: Jun-10; PackageReference: DHC-16; PackageDescription: 16-Pin Plastic DFN, Body 5 x 3 mm, Pitch 0.5 mm; Supplier 1: Digi-Key; Supplier Part Number 1: LT3022IDHC#PBF-ND; Supplier 2: Farnell; Supplier Part Number 2: 2295252; Supplier 3: Newark; Supplier Part Number 3: 13T4228; RoHS: TRUE; Mounting Technology: Surface Mount; Code_JEDEC: MO-229; ComponentLink1Description: Manufacturer URL; ComponentLink1URL: http://www.linear.com/; ComponentLink2Description: Datasheet; ComponentLink2URL: http://cds.linear.com/docs/en/datasheet/3022fb.pdf; ComponentLink3Description: Package Specification; ComponentLink3URL: http://cds.linear.com/docs/en/packaging/DFN_16_05-08-1706.pdf
footprint LT-DHC-16_V (SON, 16-Leads, Body 5x3mm, Pitch 0.5mm, Thermal Pad 4.4X1.65mm)
part A pins: 3 OUT (power) "These pins supply power to the load. Use a minimum output capacitor of 10uF to prevent oscillations. Large load transient applications require larger output capacitors to limit peak voltage transients. See the Applications (See Datasheet)", 4 OUT (power) "These pins supply power to the load. Use a minimum output capacitor of 10uF to prevent oscillations. Large load transient applications require larger output capacitors to limit peak voltage transients. See the Applications (See Datasheet)", 5 ADJ (in) "This pin is the error amplifier inverting terminal. Its 30nA typical input bias current flows out of the pin (see curve of ADJ Pin Bias Current vs Temperature in the Typical Performance Characteristics). The ADJ pin (See Datasheet)", 6 AGND (power) "Analog Ground. Tie these pins directly to PGND (Pins 10, 11) and the exposed backside GND (Pin 17). Connect the bottom of the external resistor divider, setting output voltage, directly to AGND for optimum regulation.", 7 AGND (power) "Analog Ground. Tie these pins directly to PGND (Pins 10, 11) and the exposed backside GND (Pin 17). Connect the bottom of the external resistor divider, setting output voltage, directly to AGND for optimum regulation.", 9 ~{SHDN} (in) "Pulling the S\H\D\N\ pin low puts the LT3022 into a low power state and turns the output off. Drive the S\H\D\N\ pin with either logic or an open-collector/drain device with a pull-up resistor. The resistor supplies the (See Datasheet)", 10 PGND (power) "Power Ground. The majority of ground pin current flows out of PGND. Tie these pins directly to AGND (Pins 6, 7) and the exposed backside GND (Pin 17).", 11 PGND (power) "Power Ground. The majority of ground pin current flows out of PGND. Tie these pins directly to AGND (Pins 6, 7) and the exposed backside GND (Pin 17).", 12 IN (power) "These pins supply power to the device. The LT3022 requires a bypass capacitor at IN if located more than six inches from the main input filter capacitor. Include a bypass capacitor in battery-powered circuits as a (See Datasheet)", 13 IN (power) "These pins supply power to the device. The LT3022 requires a bypass capacitor at IN if located more than six inches from the main input filter capacitor. Include a bypass capacitor in battery-powered circuits as a (See Datasheet)", 14 IN (power) "These pins supply power to the device. The LT3022 requires a bypass capacitor at IN if located more than six inches from the main input filter capacitor. Include a bypass capacitor in battery-powered circuits as a (See Datasheet)", 17 EP (power) "Exposed Pad. Tie this pin directly to AGND (Pins 6, 7), PGND (Pins 10, 11) and the PCB ground. This pin provides enhanced thermal performance with its connection to the PCB ground. See the Applications Information section (See Datasheet)"
part B pins: 1 NC "No Connect Pins. These pins have no connection to internal circuitry. These pins may be floated, tied to VIN or tied to GND for improved thermal performance.", 2 NC "No Connect Pins. These pins have no connection to internal circuitry. These pins may be floated, tied to VIN or tied to GND for improved thermal performance.", 8 NC "No Connect Pins. These pins have no connection to internal circuitry. These pins may be floated, tied to VIN or tied to GND for improved thermal performance.", 15 NC "No Connect Pins. These pins have no connection to internal circuitry. These pins may be floated, tied to VIN or tied to GND for improved thermal performance.", 16 NC "No Connect Pins. These pins have no connection to internal circuitry. These pins may be floated, tied to VIN or tied to GND for improved thermal performance."